# EAGLE library part I3107 (library dec-con)
256 Bit RAM
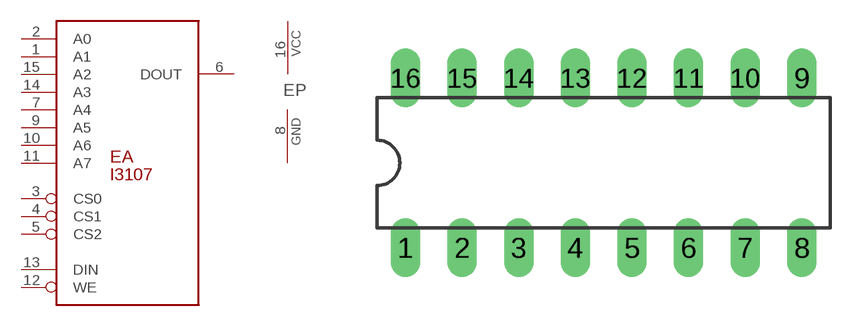
[diagram p116: symbol with the pads of DIL16; footprint DIL16]

Designator prefix E; gates A=I3107 P=PWRN

## I3107  [DIL16]
1  A:A1  in
2  A:A0  in
3  A:CS0  in
4  A:CS1  in
5  A:CS2  in
6  A:DOUT  oc
7  A:A4  in
8  P:GND  pwr
9  A:A5  in
10  A:A6  in
11  A:A7  in
12  A:WE  in
13  A:DIN  in
14  A:A3  in
15  A:A2  in
16  P:VCC  pwr

## Footprint DIL16 (pad centres in mm)
Dual In Line Package
drill 0.813 long: 1 -8.89,-3.81; 2 -6.35,-3.81; 3 -3.81,-3.81; 4 -1.27,-3.81; 5 1.27,-3.81; 6 3.81,-3.81; 7 6.35,-3.81; 8 8.89,-3.81; 9 8.89,3.81; 10 6.35,3.81; 11 3.81,3.81; 12 1.27,3.81; 13 -1.27,3.81; 14 -3.81,3.81; 15 -6.35,3.81; 16 -8.89,3.81